# EAGLE library part SMD-TF+SIM-VSHO-21-3301 (library OPL-Connector)
320010029
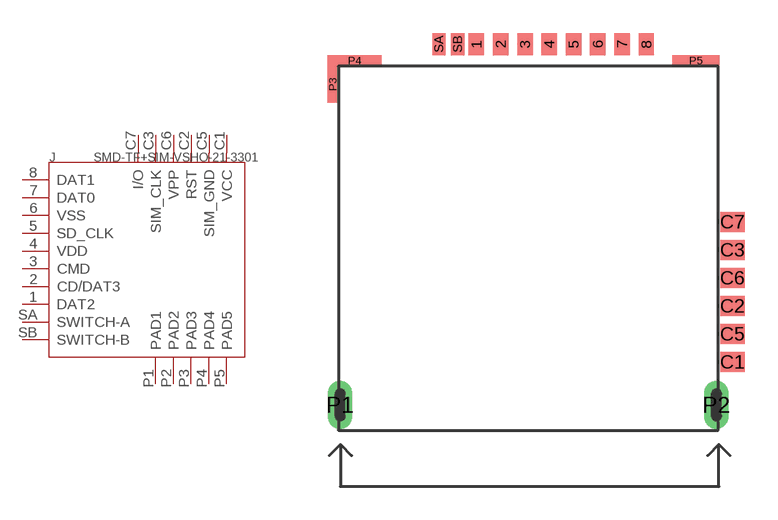
[diagram p64: symbol with the pads of SD+SIM-16+4P-17.4X16.5X2.7MM; footprint SD+SIM-16+4P-17.4X16.5X2.7MM]

Designator prefix J

## SMD-TF+SIM-VSHO-21-3301 (MPN: VSHO-21-3301)  [SD+SIM-16+4P-17.4X16.5X2.7MM]
1  DAT2
2  CD/DAT3
3  CMD
4  VDD
5  SD_CLK
6  VSS
7  DAT0
8  DAT1
C1  VCC
C2  RST
C3  SIM_CLK
C5  SIM_GND
C6  VPP
C7  I/O
P1  PAD1
P2  PAD2
P3  PAD3
P4  PAD4
P5  PAD5
SA  SWITCH-A
SB  SWITCH-B

## Footprint SD+SIM-16+4P-17.4X16.5X2.7MM (pad centres in mm)
smd 0.7 x 1: 1 -2.35,9.25; 2 -1.25,9.25; 3 -0.15,9.25; 4 0.95,9.25; 5 2.05,9.25; 6 3.15,9.25; 7 4.25,9.25; 8 5.35,9.25
smd 1.1 x 0.9: C1 9.25,-5.16; C2 9.25,-2.62; C3 9.25,-0.08; C5 9.25,-3.89; C6 9.25,-1.35; C7 9.25,1.19
drill 0.5 pad 1.1 long: P1 -8.525,-7.1; P2 8.525,-7.1
smd 0.5 x 1.65: P3 -8.85,7.425
smd 2.45 x 0.5: P4 -7.875,8.5
smd 2.13 x 0.5: P5 7.585,8.5
smd 0.6 x 1: SA -4.05,9.25; SB -3.2,9.25